# Altium footprint library DAQ.PcbLib: 28 footprints (part 2 of 2)
Each footprint in its own frame and in the unit in brackets; x right, y up, seen from the top. Pads: shape width x height; smd on the part's side, far side on the other; paste and mask are expansions set on the pad; w line width, h text height; cw(c..) or ccw(c..) is an arc to the next point about the centre after c.
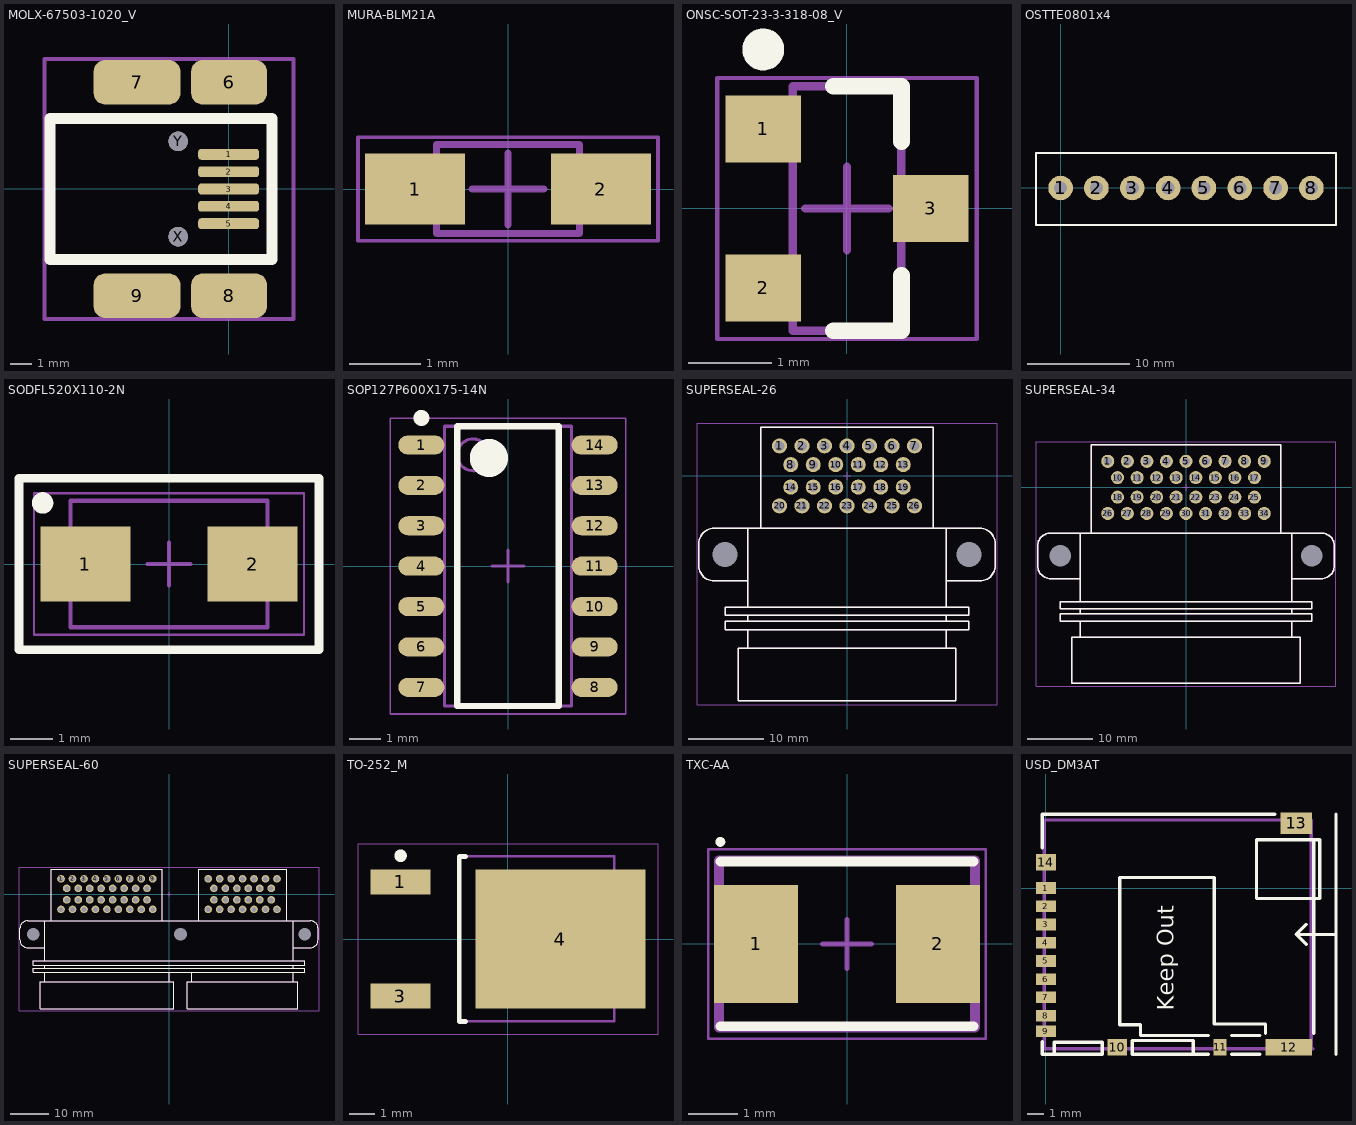
[diagram p1: the footprints below, top view; thin cyan lines are the x and y axes]

## MOLX-67503-1020_V [mm] "Mini USB Connector, SMT, Righer Angle"
pads (11):
  rrect50% 2.8x0.5 smd: 1(0,1.6) 2(0,0.8) 3(0,0) 4(0,-0.8) 5(0,-1.6)
  rrect50% 3.5x2.05 smd: 6(0.025,4.925) 8(0.025,-4.925)
  rrect50% 4x2.05 smd: 7(-4.225,4.925) 9(-4.225,-4.925)
  round 0.9 hole 0.9 unplated: X(-2.325,-2.2) Y(-2.325,2.2)
Top Overlay:
  lines w0.5: -8.25,-3.25 -8.25,3.25 2,3.25 2,-3.25 -8.25,-3.25
Mechanical 29:
  lines w0.2: -8.5,-6 3,-6 3,6 -8.5,6 -8.5,-6
  text ".Designator" at -3.6,-0.5 h1.52
3D body: height 3.95, standoff -1, extent -8.217,-4.957 0.783,4.943

## MURA-BLM21A [mm] "Chip Ferrite Bead, 2-Leads, Body 2x1.25mm, Height 1.05mm"
height 1.05
pads (2):
  rect 1.4x1 smd: 1(-1.3,0) 2(1.3,0)
Mechanical 13:
  lines w0.1: -1,-0.625 -1,0.625 1,0.625 1,-0.625 -1,-0.625
Mechanical 15:
  lines w0.05: -2.1,-0.725 2.1,-0.725 2.1,0.725 -2.1,0.725 -2.1,-0.725
  lines w0.1: -0.5,0 0.5,0 ; 0,-0.5 0,0.5
3D body: height 1.05, standoff 0, extent -1,-0.625 1,0.625

## ONSC-SOT-23-3-318-08_V [mm] "SOT23, 3-Leads, Body 2.92x1.3mm, Pitch 0.95mm"
height 1.11
pads (3):
  rect 0.9x0.8 smd: 1(-1,0.95) 2(-1,-0.95) 3(1,0)
Top Overlay:
  circle w0.25: c-1,1.9 r0.125
  lines w0.2: -0.165,-1.46 0.65,-1.46 0.65,-0.8 ; -0.165,1.46 0.65,1.46 0.65,0.8
Mechanical 13:
  lines w0.1: -0.65,-1.46 0.65,-1.46 0.65,1.46 -0.65,1.46 -0.65,-1.46
Mechanical 15:
  lines w0.05: -1.55,-1.56 1.55,-1.56 1.55,1.56 -1.55,1.56 -1.55,-1.56
  lines w0.1: -0.5,0 0.5,0 ; 0,-0.5 0,0.5
3D body: height 1.11, standoff 0.01, extent -0.65,-1.46 0.65,1.46

## OSTTE0801x4 [mm] "Terminal Block 8 Pos"
height 8.4
pads (8):
  round 2.4 hole 1.3: 1(0,0) 2(3.5,0) 3(7,0) 4(10.5,0) 5(14,0) 6(17.5,0) 7(21,0) 8(24.5,0)
Top Overlay:
  lines w0.2: -2.4,-3.6 26.9,-3.6 26.9,3.4 -2.4,3.4 -2.4,-3.6
Mechanical 29:
  lines w0.2: -2.4,-3.6 26.9,-3.6 26.9,3.4 -2.4,3.4 -2.4,-3.6

## SODFL520X110-2N [mm] "SODFL, 2-Leads, Body 2.60x5.20mm, IPC Medium Density"
height 1.1
pads (2):
  rect 2.1x1.75 smd: 1(-1.95,0) 2(1.95,0)
Top Overlay:
  circle w0.25: c-2.95,1.425 r0.125
  lines w0.2: -3.5,-2 -3.5,2 3.5,2 3.5,-2 -3.5,-2
Mechanical 13:
  lines w0.1: -2.3,-1.475 2.3,-1.475 2.3,1.475 -2.3,1.475 -2.3,-1.475
Mechanical 15:
  lines w0.05: -3.15,-1.65 3.15,-1.65 3.15,1.65 -3.15,1.65 -3.15,-1.65
  lines w0.1: -0.5,0 0.5,0 ; 0,-0.5 0,0.5
3D body: height 1.1, standoff 0, extent -2.3,-1.475 2.3,1.475

## SOP127P600X175-14N [mm] "SOP, 14-Leads, Body 8.65x3.90mm, Pitch 1.27mm, IPC Medium Density"
height 1.75
pads (14):
  oval 1.45x0.6 smd: 1(-2.725,3.81) 2(-2.725,2.54) 3(-2.725,1.27) 4(-2.725,0) 5(-2.725,-1.27) 6(-2.725,-2.54) 7(-2.725,-3.81) 8(2.725,-3.81) 9(2.725,-2.54) 10(2.725,-1.27) 11(2.725,0) 12(2.725,1.27) 13(2.725,2.54) 14(2.725,3.81)
Top Overlay:
  circle w0.6: c-0.6,3.4 r0.3
  circle w0.25: c-2.725,4.66 r0.125
  lines w0.2: -1.6,-4.4 1.6,-4.4 1.6,4.4 -1.6,4.4 -1.6,-4.4
Mechanical 15:
  lines w0.05: -3.7,-4.65 3.7,-4.65 3.7,4.65 -3.7,4.65 -3.7,-4.65
  lines w0.1: -0.5,0 0.5,0 ; 0,-0.5 0,0.5
Mechanical 29:
  circle w0.1: c-1.1,3.5 r0.5
  lines w0.1: -2,-4.4 2,-4.4 2,4.4 -2,4.4 -2,-4.4
3D body: height 1.75, standoff 0.25, extent -2,-4.4 2,4.4

## SUPERSEAL-26 [mm]
pads (28):
  round 2 hole 1.3: 1(-9,4) 2(-6,4) 3(-3,4) 4(0,4) 5(3,4) 6(6,4) 7(9,4) 8(-7.5,1.5) 9(-4.5,1.5) 10(-1.5,1.5) 11(1.5,1.5) 12(4.5,1.5) 13(7.5,1.5) 14(-7.5,-1.5) 15(-4.5,-1.5) 16(-1.5,-1.5) 17(1.5,-1.5) 18(4.5,-1.5) 19(7.5,-1.5) 20(-9,-4) 21(-6,-4) 22(-3,-4) 23(0,-4) 24(3,-4) 25(6,-4) 26(9,-4)
  round 1.524 hole 3.3 unplated: MH1(-16.25,-10.5) MH2(16.25,-10.5)
Top Overlay:
  lines w0.2: -13.25,-23 -13.25,-20.5 ; -13.25,-19.4 -13.25,-18.6 ; -13.25,-17.5 -13.25,-7 ; -13.25,-14 -17.75,-14 cw(c-17.75,-12) -19.75,-12 -19.75,-9 cw(c-17.75,-9) -17.75,-7 -13.25,-7 ; -11.5,-7 -11.5,6.5 11.5,6.5 11.5,-7 ; 13.25,-23 13.25,-20.5 ; 13.25,-19.4 13.25,-18.6 ; 13.25,-17.5 13.25,-7 ; 13.25,-14 17.75,-14 ccw(c17.75,-12) 19.75,-12 19.75,-9 ccw(c17.75,-9) 17.75,-7 13.25,-7 ; -13.25,-7 13.25,-7 ; -16.25,-20.5 -16.25,-19.4 16.25,-19.4 16.25,-20.5 -16.25,-20.5 ; -16.25,-18.6 -16.25,-17.5 16.25,-17.5 16.25,-18.6 -16.25,-18.6 ; -14.5,-30 -14.5,-23 14.5,-23 14.5,-30 -14.5,-30
Mechanical 13:
  lines w0.2: -13.25,-23 -13.25,-20.5 ; -13.25,-19.4 -13.25,-18.6 ; -13.25,-17.5 -13.25,-7 ; -13.25,-14 -17.75,-14 cw(c-17.75,-12) -19.75,-12 -19.75,-9 cw(c-17.75,-9) -17.75,-7 -13.25,-7 ; -11.5,-7 -11.5,6.5 11.5,6.5 11.5,-7 ; 13.25,-23 13.25,-20.5 ; 13.25,-19.4 13.25,-18.6 ; 13.25,-17.5 13.25,-7 ; 13.25,-14 17.75,-14 ccw(c17.75,-12) 19.75,-12 19.75,-9 ccw(c17.75,-9) 17.75,-7 13.25,-7 ; -13.25,-7 13.25,-7 ; -16.25,-20.5 16.25,-20.5 16.25,-19.4 -16.25,-19.4 -16.25,-20.5 ; -16.25,-18.6 -16.25,-17.5 16.25,-17.5 16.25,-18.6 -16.25,-18.6 ; -14.5,-30 14.5,-30 14.5,-23 -14.5,-23 -14.5,-30
Mechanical 15:
  lines w0.05: -20,-30.5 20,-30.5 20,7 -20,7 -20,-30.5
  lines w0.1: -0.5,0 0.5,0 ; 0,-0.5 0,0.5
3D body: height 27.95, standoff -4.2, extent -19.75,-30 19.75,6.5

## SUPERSEAL-34 [mm]
pads (36):
  round 2 hole 1.3: 1(-12,4) 2(-9,4) 3(-6,4) 4(-3,4) 5(0,4) 6(3,4) 7(6,4) 8(9,4) 9(12,4) 10(-10.5,1.5) 11(-7.5,1.5) 12(-4.5,1.5) 13(-1.5,1.5) 14(1.5,1.5) 15(4.5,1.5) 16(7.5,1.5) 17(10.5,1.5) 18(-10.5,-1.5) 19(-7.5,-1.5) 20(-4.5,-1.5) 21(-1.5,-1.5) 22(1.5,-1.5) 23(4.5,-1.5) 24(7.5,-1.5) 25(10.5,-1.5) 26(-12,-4) 27(-9,-4) 28(-6,-4) 29(-3,-4) 30(0,-4) 31(3,-4) 32(6,-4) 33(9,-4) 34(12,-4)
  round 1.524 hole 3.3 unplated: MH1(-19.25,-10.5) MH2(19.25,-10.5)
Top Overlay:
  lines w0.2: -16.3,-19.4 19.25,-19.4 19.25,-20.5 -19.25,-20.5 -19.25,-19.4 -16.25,-19.4 -16.25,-18.6 -19.25,-18.6 -19.25,-17.5 19.25,-17.5 19.25,-18.6 -16.3,-18.6 ; -16.25,-23 -16.25,-20.5 ; -16.25,-17.5 -16.25,-7 ; -16.25,-14 -20.75,-14 cw(c-20.75,-12) -22.75,-12 -22.75,-9 cw(c-20.75,-9) -20.75,-7 -16.25,-7 ; -14.5,-7 -14.5,6.5 14.5,6.5 14.5,-7 ; 16.25,-23 16.25,-20.5 ; 16.25,-19.4 16.25,-18.6 ; 16.25,-17.5 16.25,-7 ; 16.25,-14 20.75,-14 ccw(c20.75,-12) 22.75,-12 22.75,-9 ccw(c20.75,-9) 20.75,-7 16.25,-7 ; -16.25,-7 16.25,-7 ; -17.5,-30 -17.5,-23 17.5,-23 17.5,-30 -17.5,-30
Mechanical 13:
  lines w0.2: -16.3,-19.4 19.25,-19.4 19.25,-20.5 -19.25,-20.5 -19.25,-19.4 -16.25,-19.4 -16.25,-18.6 -19.25,-18.6 -19.25,-17.5 19.25,-17.5 19.25,-18.6 -16.3,-18.6 ; -16.25,-23 -16.25,-20.5 ; -16.25,-17.5 -16.25,-7 ; -16.25,-14 -20.75,-14 cw(c-20.75,-12) -22.75,-12 -22.75,-9 cw(c-20.75,-9) -20.75,-7 -16.25,-7 ; -14.5,-7 -14.5,6.5 14.5,6.5 14.5,-7 ; 16.25,-23 16.25,-20.5 ; 16.25,-19.4 16.25,-18.6 ; 16.25,-17.5 16.25,-7 ; 16.25,-14 20.75,-14 ccw(c20.75,-12) 22.75,-12 22.75,-9 ccw(c20.75,-9) 20.75,-7 16.25,-7 ; -16.25,-7 16.25,-7 ; -17.5,-30 17.5,-30 17.5,-23 -17.5,-23 -17.5,-30
Mechanical 15:
  lines w0.05: -23,-30.5 23,-30.5 23,7 -23,7 -23,-30.5
  lines w0.1: -0.5,0 0.5,0 ; 0,-0.5 0,0.5
3D body: height 27.95, standoff -4.2, extent -22.75,-30 22.75,6.5

## SUPERSEAL-60 [mm]
pads (63):
  round 2 hole 1.3: 1(-28.25,4) 2(-25.25,4) 3(-22.25,4) 4(-19.25,4) 5(-16.25,4) 6(-13.25,4) 7(-10.25,4) 8(-7.25,4) 9(-4.25,4) 10(-26.75,1.5) 11(-23.75,1.5) 12(-20.75,1.5) 13(-17.75,1.5) 14(-14.75,1.5) 15(-11.75,1.5) 16(-8.75,1.5) 17(-5.75,1.5) 18(-26.75,-1.5) 19(-23.75,-1.5) 20(-20.75,-1.5) 21(-17.75,-1.5) 22(-14.75,-1.5) 23(-11.75,-1.5) 24(-8.75,-1.5) 25(-5.75,-1.5) 26(-28.25,-4) 27(-25.25,-4) 28(-22.25,-4) 29(-19.25,-4) 30(-16.25,-4) 31(-13.25,-4) 32(-10.25,-4) 33(-7.25,-4) 34(-4.25,-4) 35(10.25,4) 36(13.25,4) 37(16.25,4) 38(19.25,4) 39(22.25,4) 40(25.25,4) 41(28.25,4) 42(11.75,1.5) 43(14.75,1.5) 44(17.75,1.5) 45(20.75,1.5) 46(23.75,1.5) 47(26.75,1.5) 48(11.75,-1.5) 49(14.75,-1.5) 50(17.75,-1.5) 51(20.75,-1.5) 52(23.75,-1.5) 53(26.75,-1.5) 54(10.25,-4) 55(13.25,-4) 56(16.25,-4) 57(19.25,-4) 58(22.25,-4) 59(25.25,-4) 60(28.25,-4)
  round 1.524 hole 3.3 unplated: MH1(-35.5,-10.5) MH2(3,-10.5) MH3(35.5,-10.5)
Top Overlay:
  lines w0.2: -32.55,-19.4 3,-19.4 35.5,-19.4 35.5,-20.5 3,-20.5 -35.5,-20.5 -35.5,-19.4 -32.5,-19.4 -32.5,-18.6 -35.5,-18.6 -35.5,-17.5 3,-17.5 35.5,-17.5 35.5,-18.6 3,-18.6 -32.55,-18.6 ; -32.5,-23 -32.5,-20.5 ; -32.5,-17.5 -32.5,-7 ; -32.5,-14 -37,-14 cw(c-37,-12) -39,-12 -39,-9 cw(c-37,-9) -37,-7 -32.5,-7 ; -30.75,-7 -30.75,6.5 -1.75,6.5 -1.75,-7 ; 0,-23 0,-20.5 ; 6,-23 6,-20.5 ; 7.75,-7 7.75,6.5 30.75,6.5 30.75,-7 ; 32.5,-23 32.5,-20.5 ; 32.5,-19.4 32.5,-18.6 ; 32.5,-17.5 32.5,-7 ; 32.5,-14 37,-14 ccw(c37,-12) 39,-12 39,-9 ccw(c37,-9) 37,-7 32.5,-7 ; -32.5,-7 6,-7 32.5,-7 ; -33.75,-30 1.25,-30 1.25,-23 -33.75,-23 -33.75,-30 ; 4.75,-30 4.75,-23 33.75,-23 33.75,-30 4.75,-30
Mechanical 13:
  lines w0.2: -32.55,-19.4 3,-19.4 35.5,-19.4 35.5,-20.5 3,-20.5 -35.5,-20.5 -35.5,-19.4 -32.5,-19.4 -32.5,-18.6 -35.5,-18.6 -35.5,-17.5 3,-17.5 35.5,-17.5 35.5,-18.6 3,-18.6 -32.55,-18.6 ; -32.5,-23 -32.5,-20.5 ; -32.5,-17.5 -32.5,-7 ; -32.5,-14 -37,-14 cw(c-37,-12) -39,-12 -39,-9 cw(c-37,-9) -37,-7 -32.5,-7 ; -30.75,-7 -30.75,6.5 -1.75,6.5 -1.75,-7 ; 0,-23 0,-20.5 ; 6,-23 6,-20.5 ; 7.75,-7 7.75,6.5 30.75,6.5 30.75,-7 ; 32.5,-23 32.5,-20.5 ; 32.5,-19.4 32.5,-18.6 ; 32.5,-17.5 32.5,-7 ; 32.5,-14 37,-14 ccw(c37,-12) 39,-12 39,-9 ccw(c37,-9) 37,-7 32.5,-7 ; -32.5,-7 6,-7 32.5,-7 ; -33.75,-30 -33.75,-23 1.25,-23 1.25,-30 -33.75,-30 ; 4.75,-30 33.75,-30 33.75,-23 4.75,-23 4.75,-30
Mechanical 15:
  lines w0.05: -39.25,-30.5 -39.25,7 39.25,7 39.25,-30.5 -39.25,-30.5
  lines w0.1: -0.5,0 0.5,0 ; 0,-0.5 0,0.5
3D body: height 27.95, standoff -4.2, extent -39,-30 39,6.5

## TO-252_M [mm] "D-PAK, 4-Leads, Body 6.1x6.5mm, Pitch 2.28mm, Lead Span 9.7mm, IPC Low Density"
height 2.4
pads (3):
  rect 2.4x1 smd: 1(-4.3,2.28) 3(-4.3,-2.28)
  rect 6.8x5.55 smd: 4(2.1,0)
Top Overlay:
  circle w0.25: c-4.3,3.33 r0.125
  lines w0.2: -1.7,-3.3 -1.95,-3.3 -1.95,3.3 -1.7,3.3
Mechanical 13:
  lines w0.1: -1.95,-3.3 -1.95,3.3 4.25,3.3 4.25,-3.3 -1.95,-3.3
Mechanical 15:
  lines w0.05: -6,-3.8 -6,3.8 6,3.8 6,-3.8 -6,-3.8
  lines w0.1: -0.5,0 0.5,0 ; 0,-0.5 0,0.5
3D body: height 2.4, standoff 0, extent -1.95,-3.3 4.25,3.3

## TXC-AA [mm] "DFN, 2-Leads, Body 3.20x5.00mm, Pitch 3.70mm, IPC Medium Density"
height 1.35
pads (2):
  rect 1.7x2.4 smd: 1(-1.85,0) 2(1.85,0)
Top Overlay:
  circle w0.1: c-2.575,2.075 r0.05
  lines w0.2: -2.575,-1.675 2.575,-1.675 ; -2.575,1.675 2.575,1.675
Mechanical 13:
  lines w0.1: -2.575,-1.675 2.575,-1.675 2.575,1.675 -2.575,1.675 -2.575,-1.675
Mechanical 15:
  lines w0.05: -2.825,-1.925 2.825,-1.925 2.825,1.925 -2.825,1.925 -2.825,-1.925
  lines w0.1: -0.5,0 0.5,0 ; 0,-0.5 0,0.5
Mechanical 29:
  lines w0.2: -2.6,-1.7 2.6,-1.7 2.6,1.7 -2.6,1.7 -2.6,-1.7
  text ".Designator" at -1.6,-0.7 h1.52
3D body: height 1.35, standoff 0, extent -2.575,-1.675 2.575,1.675

## USD_DM3AT [mm]
pads (14):
  rect 1.2x0.7 smd: 1(0,0) 2(0,-1.1) 3(0,-2.2) 4(0,-3.3) 5(0,-4.4) 6(0,-5.5) 7(0,-6.6)
  rect 1.2x0.7 smd mask+0.07: 8(0,-7.7) 9(0,-8.65)
  rect 1.2x1 smd: 10(4.3,-9.6) 14(0,1.55)
  rect 0.8x1 smd: 11(10.5,-9.6)
  rect 2.8x1 smd: 12(14.65,-9.6)
  rect 1.9x1.3 smd: 13(15.1,3.9)
Top Overlay:
  lines w0.2: -0.231,-9.271 -0.231,-10.033 3.4,-10.033 ; -0.231,2.413 -0.231,4.445 13.8,4.445 ; 0.5,-10.033 0.5,-9.3 3.4,-9.3 3.4,-10.004 ; 8.89,-10.033 8.89,-9.21 8.89,-9.2 5.2,-9.2 5.2,-10.033 9.8,-10.033 ; 9.8,-8.9 5.7,-8.9 5.7,-8.255 4.445,-8.255 4.445,0.635 10.16,0.635 10.16,-8.2 13.245,-8.2 13.245,-8.755 ; 11.2,-10.033 12.9,-10.033 ; 11.2,-8.9 12.9,-8.9 ; 15.7,-3.4 15.1,-2.8 ; 15.7,-2.2 15.1,-2.8 ; 16.152,-8.763 16.152,2.921 ; 17.45,-2.8 15.1,-2.8 ; 17.495,-10.033 17.495,4.445 ; 12.7,-0.635 16.51,-0.635 16.51,2.921 12.7,2.921 12.7,-0.635
  text "Keep Out" at 7.7,-7.4 h1
Mechanical 16:
  lines w0.2: -0.1,-9.7 16.1,-9.7 16,-9.6 16,4.1 -0.1,4.1 -0.1,-9.7
Mechanical 29:
  text ".Designator" at 8.5,-4.8 h1.52
3D body: height 1.68, standoff 0, extent -0.1,-9.7 16.05,4.15